# EAGLE library part GENESISCONN (library retrogaming)
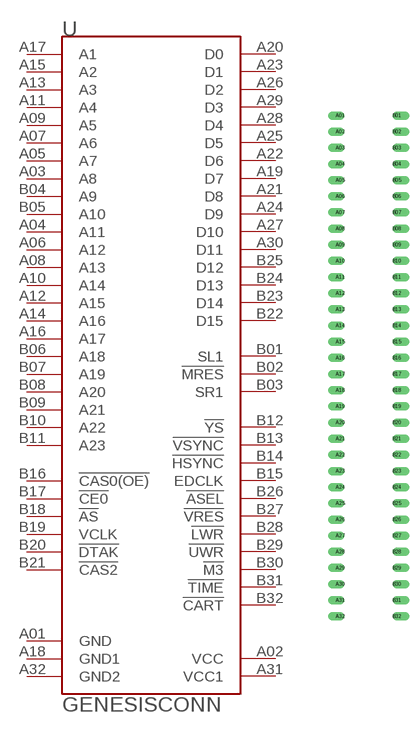
[diagram p0: symbol with the pads of GENESISCONN; footprint GENESISCONN]

Designator prefix -

## GENESISCONN  [GENESISCONN]
A01  GND  out
A02  VCC  out
A03  A8
A04  A11
A05  A7
A06  A12
A07  A6
A08  A13
A09  A5
A10  A14
A11  A4
A12  A15
A13  A3
A14  A16
A15  A2
A16  A17
A17  A1
A18  GND1  out
A19  D7
A20  D0
A21  D8
A22  D6
A23  D1
A24  D9
A25  D5
A26  D2
A27  D10
A28  D4
A29  D3
A30  D11
A31  VCC1  out
A32  GND2  out
B01  SL1
B02  !MRES
B03  SR1
B04  A9
B05  A10
B06  A18
B07  A19
B08  A20
B09  A21
B10  A22
B11  A23
B12  !YS
B13  !VSYNC
B14  !HSYNC
B15  EDCLK
B16  !CAS0(OE)
B17  !CE0
B18  !AS
B19  VCLK
B20  !DTAK
B21  !CAS2
B22  D15
B23  D14
B24  D13
B25  D12
B26  !ASEL
B27  !VRES
B28  !LWR
B29  !UWR
B30  !M3
B31  !TIME
B32  !CART

## Footprint GENESISCONN (pad centres in mm)
drill 0.8 offset: A01 -16.51,6.35; A02 -16.51,3.81; A03 -16.51,1.27; A04 -16.51,-1.27; A05 -16.51,-3.81; A06 -16.51,-6.35; A07 -16.51,-8.89; A08 -16.51,-11.43; A09 -16.51,-13.97; A10 -16.51,-16.51; A11 -16.51,-19.05; A12 -16.51,-21.59; A13 -16.51,-24.13; A14 -16.51,-26.67; A15 -16.51,-29.21; A16 -16.51,-31.75; A17 -16.51,-34.29; A18 -16.51,-36.83; A19 -16.51,-39.37; A20 -16.51,-41.91; A21 -16.51,-44.45; A22 -16.51,-46.99; A23 -16.51,-49.53; A24 -16.51,-52.07; A25 -16.51,-54.61; A26 -16.51,-57.15; A27 -16.51,-59.69; A28 -16.51,-62.23; A29 -16.51,-64.77; A30 -16.51,-67.31; A31 -16.51,-69.85; A32 -16.51,-72.39; B01 -7.62,6.35; B02 -7.62,3.81; B03 -7.62,1.27; B04 -7.62,-1.27; B05 -7.62,-3.81; B06 -7.62,-6.35; B07 -7.62,-8.89; B08 -7.62,-11.43; B09 -7.62,-13.97; B10 -7.62,-16.51; B11 -7.62,-19.05; B12 -7.62,-21.59; B13 -7.62,-24.13; B14 -7.62,-26.67; B15 -7.62,-29.21; B16 -7.62,-31.75; B17 -7.62,-34.29; B18 -7.62,-36.83; B19 -7.62,-39.37; B20 -7.62,-41.91; B21 -7.62,-44.45; B22 -7.62,-46.99; B23 -7.62,-49.53; B24 -7.62,-52.07; B25 -7.62,-54.61; B26 -7.62,-57.15; B27 -7.62,-59.69; B28 -7.62,-62.23; B29 -7.62,-64.77; B30 -7.62,-67.31; B31 -7.62,-69.85; B32 -7.62,-72.39